# EAGLE library part APA102C_2020 (library Dotstar)
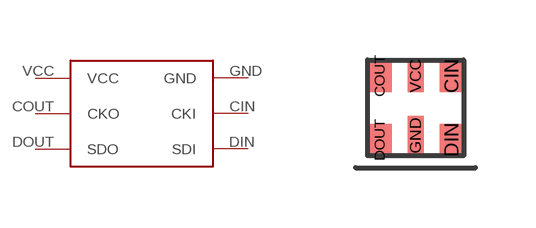
[diagram p2: symbol with the pads of 2MM; footprint 2MM]

Designator prefix -

## APA102C_2020  [2MM]
CIN  CKI
COUT  CKO
DIN  SDI
DOUT  SDO
GND  GND
VCC  VCC

## Footprint 2MM (pad centres in mm)
smd 0.6 x 0.8: CIN 0.9,0.8; COUT -0.9,0.8; DIN 0.9,-0.8; DOUT -0.9,-0.8
smd 0.4 x 1: GND 0,-0.7
smd 0.4 x 0.8: VCC 0,0.8